# Altium footprint library PCB - IND - SSRH7HSM20013.PCBLIB: 1 footprints
Each footprint in its own frame and in the unit in brackets; x right, y up, seen from the top. Pads: shape width x height; smd on the part's side, far side on the other; paste and mask are expansions set on the pad; w line width, h text height; cw(c..) or ccw(c..) is an arc to the next point about the centre after c.
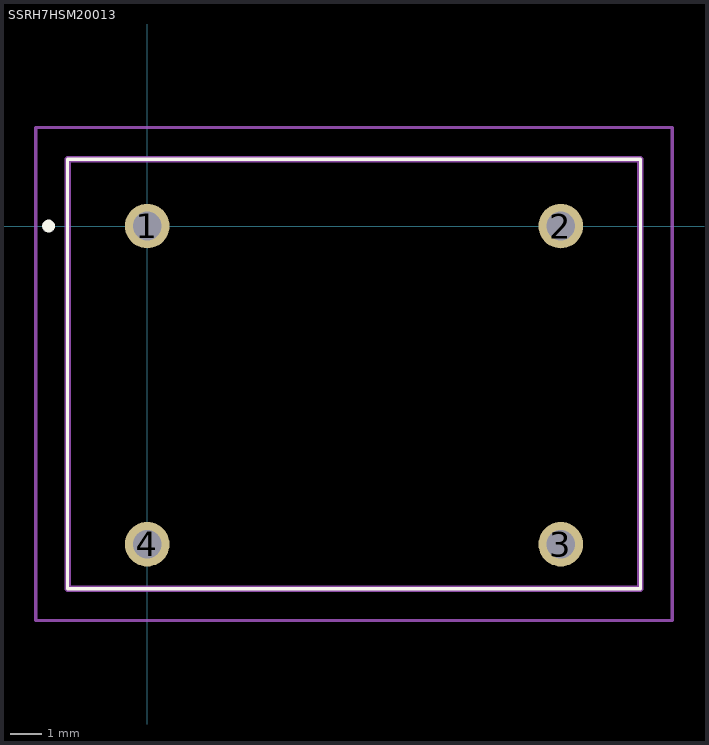
[diagram p0: the footprint, top view; thin cyan lines are the x and y axes]

## SSRH7HSM20013 [mm]
pads (4):
  round 1.4 hole 0.9: 1(0,0) 2(13,0) 3(13,-10) 4(0,-10)
Top Overlay:
  lines w0.1: -2.5,-11.4 -2.5,2.1 15.5,2.1 15.5,-11.4 -2.5,-11.4
  lines w0.2: -3.1,-0.1 ccw(c-3.1,0) -3.1,0.1 ccw(c-3.1,0) -3.1,-0.1
Top Value (Mech13):
  lines w0.2: -2.5,-11.4 -2.5,2.1 15.5,2.1 15.5,-11.4 -2.5,-11.4
Mechanical 15:
  lines w0.1: -3.5,-12.4 -3.5,3.1 16.5,3.1 16.5,-12.4 -3.5,-12.4
3D body "SSRH7HS-M20013.stp": height 11.97, standoff -3.53, extent -2.607,-12.186 15.393,2.315